# EAGLE library part 2X4-G (library Pinhead)
Ph2x4-G
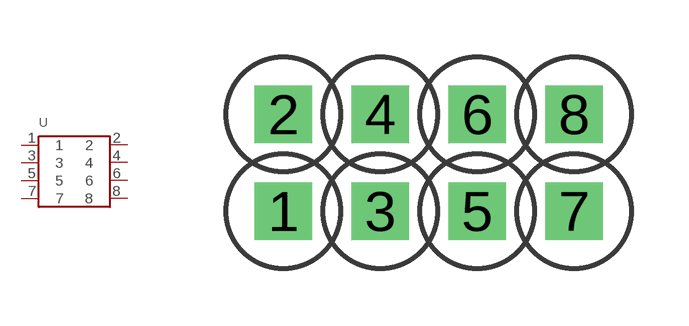
[diagram p19: symbol with the pads of 2X4-G; footprint 2X4-G]

Designator prefix -

## 2X4-G  [2X4-G]
1  1
2  2
3  3
4  4
5  5
6  6
7  7
8  8

## Footprint 2X4-G (pad centres in mm)
Ph2x4-G
drill 1 square: 1 -3.81,-1.27; 2 -3.81,1.27; 3 -1.27,-1.27; 4 -1.27,1.27; 5 1.27,-1.27; 6 1.27,1.27; 7 3.81,-1.27; 8 3.81,1.27